# Altium schematic symbol library micro.SchLib: 2 symbols
Pins are listed as number, name and electrical type; pins without a type are passive.

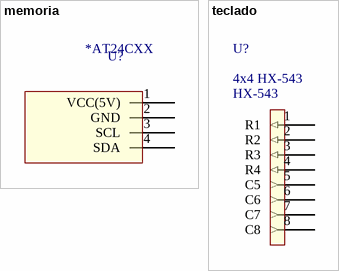
[diagram p0: symbols memoria to teclado]

## memoria
designator U?, comment value *AT24CXX  (hidden comment: memória)
AT24CXX
footprint memória (AT24CXX)
pins: 1 VCC(5V), 2 GND, 3 SCL, 4 SDA

## teclado
designator U?, comment 4x4 HX-543  value HX-543
teclado 4x4 HX-543
footprint Teclado (teclado 4x4 HX-543); pin to pad 1>R1 2>R2 3>R3 4>R4 5>C1 6>C2 7>C3 8>C4
pins: 1 R1 (in), 2 R2 (in), 3 R3 (in), 4 R4 (in), 5 C5 (out), 6 C6 (out), 7 C7 (out), 8 C8 (out)